# Altium integrated library TI Amplifiers and Linear Special Function Amplifier.IntLib: 708 symbols (part 20 of 47)
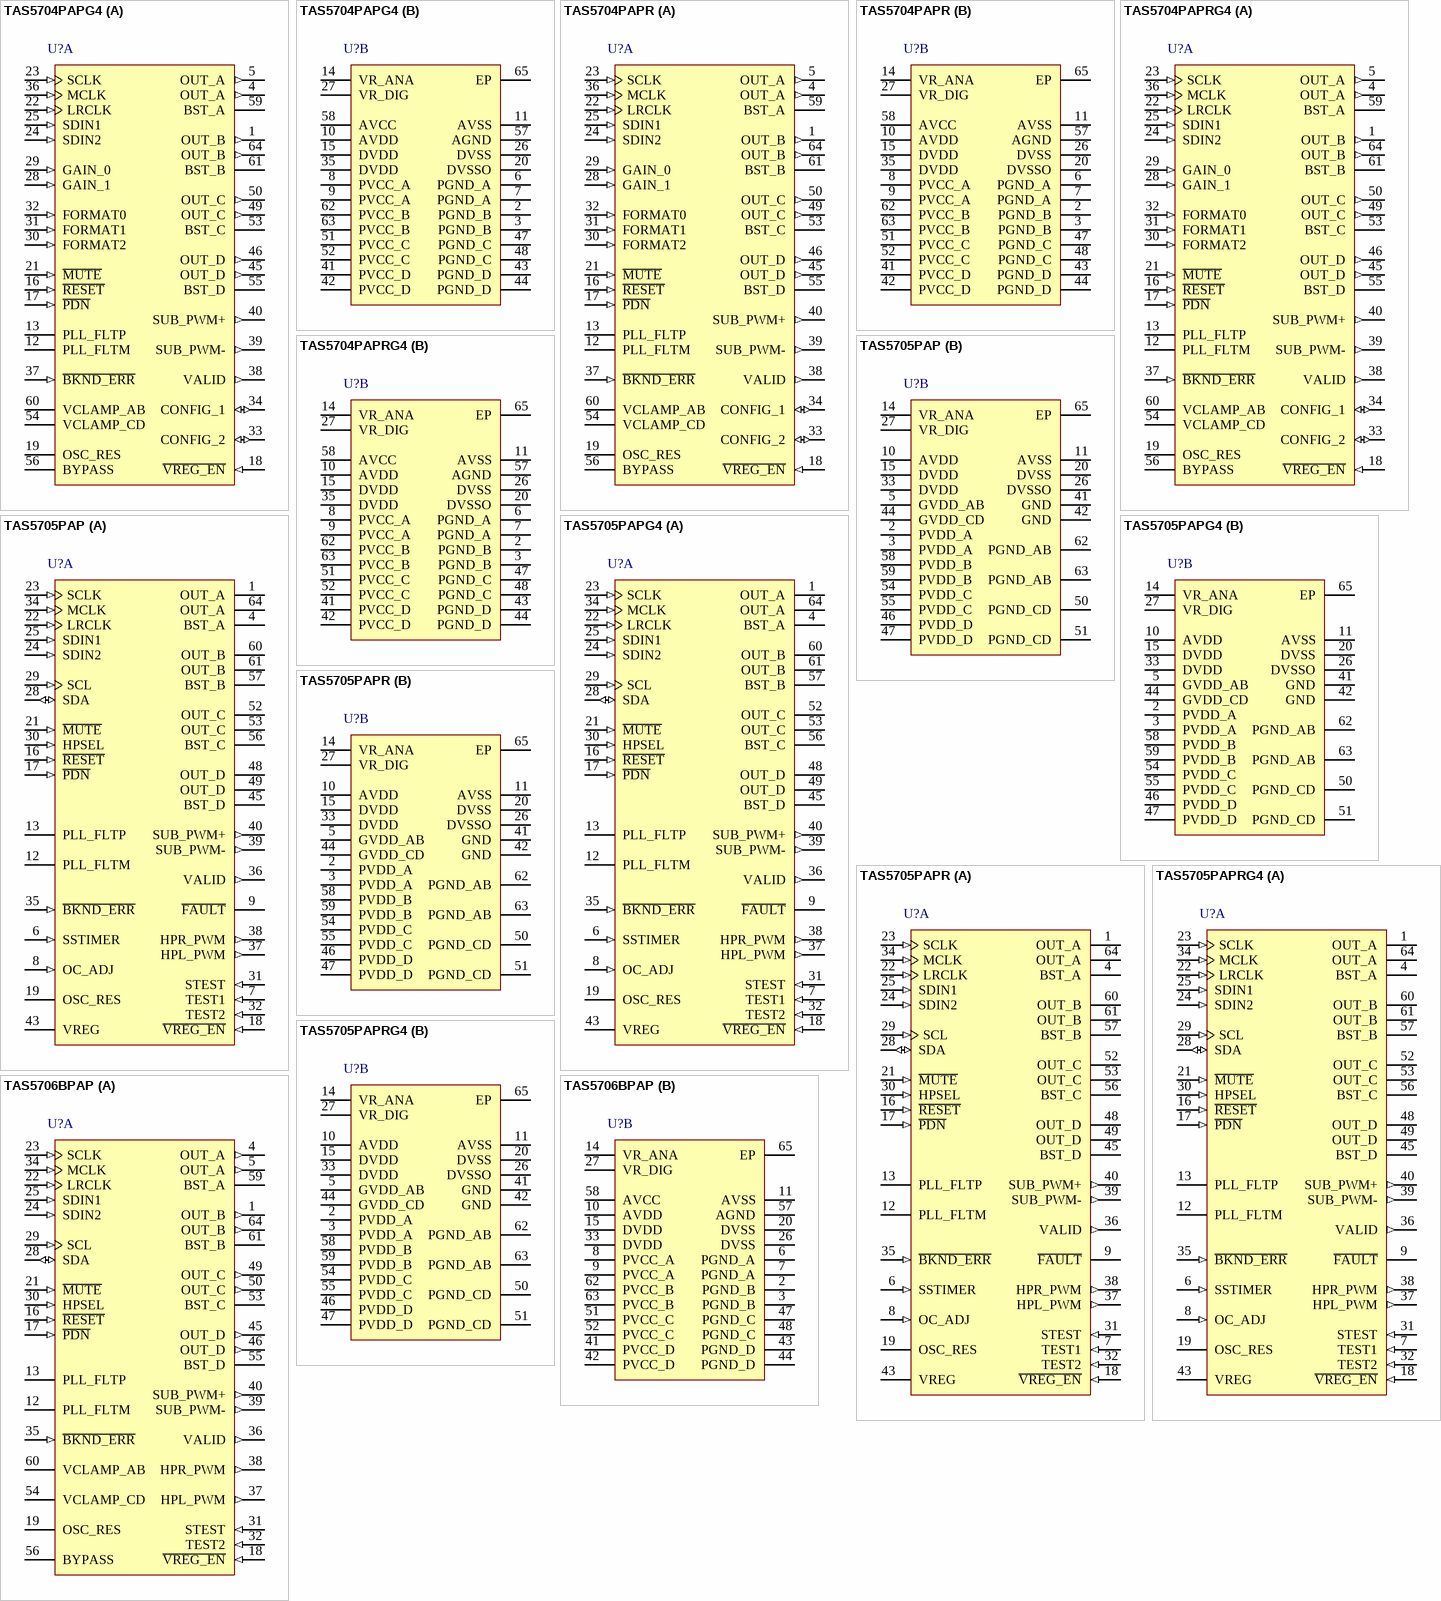
[diagram p58: symbols TAS5704PAPG4 to TAS5706BPAP]

## TAS5704PAPG4
designator U?
20 W Stereo Closed-Loop I2S Audio Power Amplifier with Speaker EQ and DRC (H / W Controlled), 0 to 85 degC, 64-pin QFP (PAP64), Green (RoHS & no Sb/Br); Manufacturer: Texas Instruments; PartNumber: TAS5704PAPG4; Analog Supply Max [V]: 3.6; Analog Supply Min [V]: 3; Input Type: Digital; Max. Number of Speaker Outputs: 4; Power Stage Supply Min(V): 10; SubFamily: Mid/High-Power Amplifier; DatasheetVersion: SLOS563A; PackageVersion: 4147702/C, 08/2003; PackageReference: PAP64-4935X4935TP; PackageDescription: 64-Pin Plastic Flat Pack, Body 10 x 10 mm, Pitch 0.5 mm; Supplier 1: Digi-Key; Supplier Part Number 1: TAS5704PAPG4-ND; Supplier 2: Mouser; Supplier Part Number 2: 595-TAS5704PAPG4; Digital Supply Min [V]: 3; Eco-Plan: Green (RoHS & no Sb/Br); Mounting Technology: Surface Mount; Code_JEDEC: MS-026; ComponentLink1Description: Manufacturer URL; ComponentLink1URL: http://www.ti.com/; ComponentLink2Description: Datasheet; ComponentLink2URL: http://www.ti.com/general/docs/lit/getliterature.tsp?genericPartNumber=TAS5704&fileType=pdf; ComponentLink3Description: Package Specification; ComponentLink3URL: http://www.ti.com/litv/pdf/mpdi001b
footprint TI-PAP64-4935X4935TP_N (QFP, 64-Leads, Body 10x10mm, Pitch 0.5mm, Thermal Pad 5.3x5.3mm, IPC Medium Density)
footprint TI-PAP64-4935X4935TP_L (QFP, 64-Leads, Body 10x10mm, Pitch 0.5mm, Thermal Pad 5.3x5.3mm, IPC High Density)
footprint TI-PAP64-4935X4935TP_M (QFP, 64-Leads, Body 10x10mm, Pitch 0.5mm, Thermal Pad 5.3x5.3mm, IPC Low Density)
part A pins: 1 OUT_B (out) "Output, half-bridge B", 4 OUT_A (out) "Output, half-bridge A", 5 OUT_A (out) "Output, half-bridge A", 12 PLL_FLTM "PLL negative loop filter terminal", 13 PLL_FLTP "PLL positive loop filter terminal", 16 ~{RESET} (in) "Reset, active-low. A system reset is generated by applying a logic low to this terminal. R\E\S\E\T\ is an asynchronous control signal that sets the VALID outputs low, and places the PWM in the hard-mute state stops (See Datasheet)", 17 ~{PDN} (in) "Power down, active-low. P\D\N\ stops all clocks and outputs stop switching. When P\D\N\ is released, the device powers up all logic, starts all clocks, and performs a soft start that returns to the previous configuration. (See Datasheet)", 18 ~{VREG_EN} (in) "Voltage regulator enable. Connect directly to GND.", 19 OSC_RES "Oscillator trim resistor. Connect an 18.2-k ohm resistor to DVSSO.", 21 ~{MUTE} (in) "Performs a soft mute of outputs, active-low. A logic low on this terminal sets the outputs equal to 50% duty cycle. A logic high on this terminal allows normal operation. The mute control provides a noiseless volume ramp to (See Datasheet)", 22 LRCLK (in) "Input serial audio data left/right clock (sampling rate clock)", 23 SCLK (in) "Serial audio data clock (shift clock). SCLK is the serial audio port input data bit clock.", 24 SDIN2 (in) "Serial audio data-2 input is one of the serial data input ports. SDIN2 supports three discrete (stereo) data formats.", 25 SDIN1 (in) "Serial audio data-1 input is one of the serial data input ports. SDIN1 supports three discrete (stereo) data formats.", 28 GAIN_1 (in) "MSB of gain select. GAIN_0 and GAIN_1 allow 4 possible gain selections.", 29 GAIN_0 (in) "LSB of gain select. GAIN_0 and GAIN_1 allow 4 possible gain selections.", 30 FORMAT2 (in) "Digital data format select.", 31 FORMAT1 (in) "Digital data format select.", 32 FORMAT0 (in) "Digital data format select.", 33 CONFIG_2 (io) "Input/output configuration.", 34 CONFIG_1 (io) "Input/output configuration.", 36 MCLK (in) "Master clock input. The input frequency of this clock can range from 4.9 MHz to 49.2 MHz.", 37 ~{BKND_ERR} (in) "Active low. A back-end error sequence is initiated by applying a logic low to this pin. Connect to an external power stage. If no external power stage is used, connect directly to DVDD.", 38 VALID (out) "Output indicating validity of all PWM channels, active high. Connect this pin to an external power stage or leave floating.", 39 SUB_PWM- (out) "Subwoofer negative PWM output", 40 SUB_PWM+ (out) "Subwoofer positive PWM output", 45 OUT_D (out) "Output, half-bridge D", 46 OUT_D (out) "Output, half-bridge D", 49 OUT_C (out) "Output, half-bridge C", 50 OUT_C (out) "Output, half-bridge C", 53 BST_C "High-side bootstrap supply for half-bridge C", 54 VCLAMP_CD "Internally generated voltage supply for channels C and D gate drive. Not to be used as a supply or connected to any component other than the decoupling capacitor", 55 BST_D "High-side bootstrap supply for half-bridge D", 56 BYPASS "Nominally equal to VCC/8. Internal reference voltage for analog cells", 59 BST_A "High-side bootstrap supply for half-bridge A", 60 VCLAMP_AB "Internally generated voltage supply for channels A and B gate drive. Not to be used as a supply or connected to any component other than the decoupling capacitor", 61 BST_B "High-side bootstrap supply for half-bridge B", 64 OUT_B (out) "Output, half-bridge B"
part B pins: 2 PGND_B (power) "Power ground for half-bridge B", 3 PGND_B (power) "Power ground for half-bridge B", 6 PGND_A (power) "Power ground for half-bridge A", 7 PGND_A (power) "Power ground for half-bridge A", 8 PVCC_A (power) "Power supply input for half-bridge output A", 9 PVCC_A (power) "Power supply input for half-bridge output A", 10 AVDD (power) "3.3-V analog power supply", 11 AVSS (power) "3.3-V analog supply ground", 14 VR_ANA (power) "Internally regulated 1.8-V analog supply voltage. This terminal must not be used to power external devices.", 15 DVDD (power) "3.3-V digital power supply", 20 DVSSO (power) "Oscillator ground", 26 DVSS (power) "Digital ground", 27 VR_DIG (power) "Internally regulated 1.8-V digital supply voltage. This terminal must not be used to power external devices.", 35 DVDD (power) "3.3-V digital power supply", 41 PVCC_D (power) "Power supply input for half-bridge output D", 42 PVCC_D (power) "Power supply input for half-bridge output D", 43 PGND_D (power) "Power ground for half-bridge D", 44 PGND_D (power) "Power ground for half-bridge D", 47 PGND_C (power) "Power ground for half-bridge C", 48 PGND_C (power) "Power ground for half-bridge C", 51 PVCC_C (power) "Power supply input for half-bridge output C", 52 PVCC_C (power) "Power supply input for half-bridge output C", 57 AGND (power) "Analog ground for power stage", 58 AVCC (power) "Analog power supply for power stage. Connect externally to same potential as PVCC.", 62 PVCC_B (power) "Power supply input for half-bridge output B", 63 PVCC_B (power) "Power supply input for half-bridge output B", 65 EP (power)

## TAS5704PAPR
designator U?
20 W Stereo Closed-Loop I2S Audio Power Amplifier with Speaker EQ and DRC (H / W Controlled), 0 to 85 degC, 64-pin QFP (PAP64), Green (RoHS & no Sb/Br); Manufacturer: Texas Instruments; PartNumber: TAS5704PAPR; Analog Supply Max [V]: 3.6; Analog Supply Min [V]: 3; Input Type: Digital; Max. Number of Speaker Outputs: 4; Power Stage Supply Min(V): 10; SubFamily: Mid/High-Power Amplifier; DatasheetVersion: SLOS563A; PackageVersion: 4147702/C, 08/2003; PackageReference: PAP64-4935X4935TP; PackageDescription: 64-Pin Plastic Flat Pack, Body 10 x 10 mm, Pitch 0.5 mm; Supplier 1: Digi-Key; Supplier Part Number 1: 296-23372-2-ND; Supplier 2: Digi-Key; Supplier Part Number 2: 296-23372-1-ND; Supplier 3: Digi-Key; Supplier Part Number 3: 296-23372-6-ND; Supplier 4: Mouser; Supplier Part Number 4: 595-TAS5704PAPR; Digital Supply Min [V]: 3; Eco-Plan: Green (RoHS & no Sb/Br); Mounting Technology: Surface Mount; Code_JEDEC: MS-026; ComponentLink1Description: Manufacturer URL; ComponentLink1URL: http://www.ti.com/; ComponentLink2Description: Datasheet; ComponentLink2URL: http://www.ti.com/general/docs/lit/getliterature.tsp?genericPartNumber=TAS5704&fileType=pdf; ComponentLink3Description: Package Specification; ComponentLink3URL: http://www.ti.com/litv/pdf/mpdi001b
footprint TI-PAP64-4935X4935TP_N (QFP, 64-Leads, Body 10x10mm, Pitch 0.5mm, Thermal Pad 5.3x5.3mm, IPC Medium Density)
footprint TI-PAP64-4935X4935TP_L (QFP, 64-Leads, Body 10x10mm, Pitch 0.5mm, Thermal Pad 5.3x5.3mm, IPC High Density)
footprint TI-PAP64-4935X4935TP_M (QFP, 64-Leads, Body 10x10mm, Pitch 0.5mm, Thermal Pad 5.3x5.3mm, IPC Low Density)
part A pins: 1 OUT_B (out) "Output, half-bridge B", 4 OUT_A (out) "Output, half-bridge A", 5 OUT_A (out) "Output, half-bridge A", 12 PLL_FLTM "PLL negative loop filter terminal", 13 PLL_FLTP "PLL positive loop filter terminal", 16 ~{RESET} (in) "Reset, active-low. A system reset is generated by applying a logic low to this terminal. R\E\S\E\T\ is an asynchronous control signal that sets the VALID outputs low, and places the PWM in the hard-mute state stops (See Datasheet)", 17 ~{PDN} (in) "Power down, active-low. P\D\N\ stops all clocks and outputs stop switching. When P\D\N\ is released, the device powers up all logic, starts all clocks, and performs a soft start that returns to the previous configuration. (See Datasheet)", 18 ~{VREG_EN} (in) "Voltage regulator enable. Connect directly to GND.", 19 OSC_RES "Oscillator trim resistor. Connect an 18.2-k ohm resistor to DVSSO.", 21 ~{MUTE} (in) "Performs a soft mute of outputs, active-low. A logic low on this terminal sets the outputs equal to 50% duty cycle. A logic high on this terminal allows normal operation. The mute control provides a noiseless volume ramp to (See Datasheet)", 22 LRCLK (in) "Input serial audio data left/right clock (sampling rate clock)", 23 SCLK (in) "Serial audio data clock (shift clock). SCLK is the serial audio port input data bit clock.", 24 SDIN2 (in) "Serial audio data-2 input is one of the serial data input ports. SDIN2 supports three discrete (stereo) data formats.", 25 SDIN1 (in) "Serial audio data-1 input is one of the serial data input ports. SDIN1 supports three discrete (stereo) data formats.", 28 GAIN_1 (in) "MSB of gain select. GAIN_0 and GAIN_1 allow 4 possible gain selections.", 29 GAIN_0 (in) "LSB of gain select. GAIN_0 and GAIN_1 allow 4 possible gain selections.", 30 FORMAT2 (in) "Digital data format select.", 31 FORMAT1 (in) "Digital data format select.", 32 FORMAT0 (in) "Digital data format select.", 33 CONFIG_2 (io) "Input/output configuration.", 34 CONFIG_1 (io) "Input/output configuration.", 36 MCLK (in) "Master clock input. The input frequency of this clock can range from 4.9 MHz to 49.2 MHz.", 37 ~{BKND_ERR} (in) "Active low. A back-end error sequence is initiated by applying a logic low to this pin. Connect to an external power stage. If no external power stage is used, connect directly to DVDD.", 38 VALID (out) "Output indicating validity of all PWM channels, active high. Connect this pin to an external power stage or leave floating.", 39 SUB_PWM- (out) "Subwoofer negative PWM output", 40 SUB_PWM+ (out) "Subwoofer positive PWM output", 45 OUT_D (out) "Output, half-bridge D", 46 OUT_D (out) "Output, half-bridge D", 49 OUT_C (out) "Output, half-bridge C", 50 OUT_C (out) "Output, half-bridge C", 53 BST_C "High-side bootstrap supply for half-bridge C", 54 VCLAMP_CD "Internally generated voltage supply for channels C and D gate drive. Not to be used as a supply or connected to any component other than the decoupling capacitor", 55 BST_D "High-side bootstrap supply for half-bridge D", 56 BYPASS "Nominally equal to VCC/8. Internal reference voltage for analog cells", 59 BST_A "High-side bootstrap supply for half-bridge A", 60 VCLAMP_AB "Internally generated voltage supply for channels A and B gate drive. Not to be used as a supply or connected to any component other than the decoupling capacitor", 61 BST_B "High-side bootstrap supply for half-bridge B", 64 OUT_B (out) "Output, half-bridge B"
part B pins: 2 PGND_B (power) "Power ground for half-bridge B", 3 PGND_B (power) "Power ground for half-bridge B", 6 PGND_A (power) "Power ground for half-bridge A", 7 PGND_A (power) "Power ground for half-bridge A", 8 PVCC_A (power) "Power supply input for half-bridge output A", 9 PVCC_A (power) "Power supply input for half-bridge output A", 10 AVDD (power) "3.3-V analog power supply", 11 AVSS (power) "3.3-V analog supply ground", 14 VR_ANA (power) "Internally regulated 1.8-V analog supply voltage. This terminal must not be used to power external devices.", 15 DVDD (power) "3.3-V digital power supply", 20 DVSSO (power) "Oscillator ground", 26 DVSS (power) "Digital ground", 27 VR_DIG (power) "Internally regulated 1.8-V digital supply voltage. This terminal must not be used to power external devices.", 35 DVDD (power) "3.3-V digital power supply", 41 PVCC_D (power) "Power supply input for half-bridge output D", 42 PVCC_D (power) "Power supply input for half-bridge output D", 43 PGND_D (power) "Power ground for half-bridge D", 44 PGND_D (power) "Power ground for half-bridge D", 47 PGND_C (power) "Power ground for half-bridge C", 48 PGND_C (power) "Power ground for half-bridge C", 51 PVCC_C (power) "Power supply input for half-bridge output C", 52 PVCC_C (power) "Power supply input for half-bridge output C", 57 AGND (power) "Analog ground for power stage", 58 AVCC (power) "Analog power supply for power stage. Connect externally to same potential as PVCC.", 62 PVCC_B (power) "Power supply input for half-bridge output B", 63 PVCC_B (power) "Power supply input for half-bridge output B", 65 EP (power)

## TAS5704PAPRG4
designator U?
20 W Stereo Closed-Loop I2S Audio Power Amplifier with Speaker EQ and DRC (H / W Controlled), 0 to 85 degC, 64-pin QFP (PAP64), Green (RoHS & no Sb/Br); Manufacturer: Texas Instruments; PartNumber: TAS5704PAPRG4; Analog Supply Max [V]: 3.6; Analog Supply Min [V]: 3; Input Type: Digital; Max. Number of Speaker Outputs: 4; Power Stage Supply Min(V): 10; SubFamily: Mid/High-Power Amplifier; DatasheetVersion: SLOS563A; PackageVersion: 4147702/C, 08/2003; PackageReference: PAP64-4935X4935TP; PackageDescription: 64-Pin Plastic Flat Pack, Body 10 x 10 mm, Pitch 0.5 mm; Supplier 1: Digi-Key; Supplier Part Number 1: TAS5704PAPRG4-ND; Supplier 2: Mouser; Supplier Part Number 2: 595-TAS5704PAPRG4; Digital Supply Min [V]: 3; Eco-Plan: Green (RoHS & no Sb/Br); Mounting Technology: Surface Mount; Code_JEDEC: MS-026; ComponentLink1Description: Manufacturer URL; ComponentLink1URL: http://www.ti.com/; ComponentLink2Description: Datasheet; ComponentLink2URL: http://www.ti.com/general/docs/lit/getliterature.tsp?genericPartNumber=TAS5704&fileType=pdf; ComponentLink3Description: Package Specification; ComponentLink3URL: http://www.ti.com/litv/pdf/mpdi001b
footprint TI-PAP64-4935X4935TP_N (QFP, 64-Leads, Body 10x10mm, Pitch 0.5mm, Thermal Pad 5.3x5.3mm, IPC Medium Density)
footprint TI-PAP64-4935X4935TP_L (QFP, 64-Leads, Body 10x10mm, Pitch 0.5mm, Thermal Pad 5.3x5.3mm, IPC High Density)
footprint TI-PAP64-4935X4935TP_M (QFP, 64-Leads, Body 10x10mm, Pitch 0.5mm, Thermal Pad 5.3x5.3mm, IPC Low Density)
part A pins: 1 OUT_B (out) "Output, half-bridge B", 4 OUT_A (out) "Output, half-bridge A", 5 OUT_A (out) "Output, half-bridge A", 12 PLL_FLTM "PLL negative loop filter terminal", 13 PLL_FLTP "PLL positive loop filter terminal", 16 ~{RESET} (in) "Reset, active-low. A system reset is generated by applying a logic low to this terminal. R\E\S\E\T\ is an asynchronous control signal that sets the VALID outputs low, and places the PWM in the hard-mute state stops (See Datasheet)", 17 ~{PDN} (in) "Power down, active-low. P\D\N\ stops all clocks and outputs stop switching. When P\D\N\ is released, the device powers up all logic, starts all clocks, and performs a soft start that returns to the previous configuration. (See Datasheet)", 18 ~{VREG_EN} (in) "Voltage regulator enable. Connect directly to GND.", 19 OSC_RES "Oscillator trim resistor. Connect an 18.2-k ohm resistor to DVSSO.", 21 ~{MUTE} (in) "Performs a soft mute of outputs, active-low. A logic low on this terminal sets the outputs equal to 50% duty cycle. A logic high on this terminal allows normal operation. The mute control provides a noiseless volume ramp to (See Datasheet)", 22 LRCLK (in) "Input serial audio data left/right clock (sampling rate clock)", 23 SCLK (in) "Serial audio data clock (shift clock). SCLK is the serial audio port input data bit clock.", 24 SDIN2 (in) "Serial audio data-2 input is one of the serial data input ports. SDIN2 supports three discrete (stereo) data formats.", 25 SDIN1 (in) "Serial audio data-1 input is one of the serial data input ports. SDIN1 supports three discrete (stereo) data formats.", 28 GAIN_1 (in) "MSB of gain select. GAIN_0 and GAIN_1 allow 4 possible gain selections.", 29 GAIN_0 (in) "LSB of gain select. GAIN_0 and GAIN_1 allow 4 possible gain selections.", 30 FORMAT2 (in) "Digital data format select.", 31 FORMAT1 (in) "Digital data format select.", 32 FORMAT0 (in) "Digital data format select.", 33 CONFIG_2 (io) "Input/output configuration.", 34 CONFIG_1 (io) "Input/output configuration.", 36 MCLK (in) "Master clock input. The input frequency of this clock can range from 4.9 MHz to 49.2 MHz.", 37 ~{BKND_ERR} (in) "Active low. A back-end error sequence is initiated by applying a logic low to this pin. Connect to an external power stage. If no external power stage is used, connect directly to DVDD.", 38 VALID (out) "Output indicating validity of all PWM channels, active high. Connect this pin to an external power stage or leave floating.", 39 SUB_PWM- (out) "Subwoofer negative PWM output", 40 SUB_PWM+ (out) "Subwoofer positive PWM output", 45 OUT_D (out) "Output, half-bridge D", 46 OUT_D (out) "Output, half-bridge D", 49 OUT_C (out) "Output, half-bridge C", 50 OUT_C (out) "Output, half-bridge C", 53 BST_C "High-side bootstrap supply for half-bridge C", 54 VCLAMP_CD "Internally generated voltage supply for channels C and D gate drive. Not to be used as a supply or connected to any component other than the decoupling capacitor", 55 BST_D "High-side bootstrap supply for half-bridge D", 56 BYPASS "Nominally equal to VCC/8. Internal reference voltage for analog cells", 59 BST_A "High-side bootstrap supply for half-bridge A", 60 VCLAMP_AB "Internally generated voltage supply for channels A and B gate drive. Not to be used as a supply or connected to any component other than the decoupling capacitor", 61 BST_B "High-side bootstrap supply for half-bridge B", 64 OUT_B (out) "Output, half-bridge B"
part B pins: 2 PGND_B (power) "Power ground for half-bridge B", 3 PGND_B (power) "Power ground for half-bridge B", 6 PGND_A (power) "Power ground for half-bridge A", 7 PGND_A (power) "Power ground for half-bridge A", 8 PVCC_A (power) "Power supply input for half-bridge output A", 9 PVCC_A (power) "Power supply input for half-bridge output A", 10 AVDD (power) "3.3-V analog power supply", 11 AVSS (power) "3.3-V analog supply ground", 14 VR_ANA (power) "Internally regulated 1.8-V analog supply voltage. This terminal must not be used to power external devices.", 15 DVDD (power) "3.3-V digital power supply", 20 DVSSO (power) "Oscillator ground", 26 DVSS (power) "Digital ground", 27 VR_DIG (power) "Internally regulated 1.8-V digital supply voltage. This terminal must not be used to power external devices.", 35 DVDD (power) "3.3-V digital power supply", 41 PVCC_D (power) "Power supply input for half-bridge output D", 42 PVCC_D (power) "Power supply input for half-bridge output D", 43 PGND_D (power) "Power ground for half-bridge D", 44 PGND_D (power) "Power ground for half-bridge D", 47 PGND_C (power) "Power ground for half-bridge C", 48 PGND_C (power) "Power ground for half-bridge C", 51 PVCC_C (power) "Power supply input for half-bridge output C", 52 PVCC_C (power) "Power supply input for half-bridge output C", 57 AGND (power) "Analog ground for power stage", 58 AVCC (power) "Analog power supply for power stage. Connect externally to same potential as PVCC.", 62 PVCC_B (power) "Power supply input for half-bridge output B", 63 PVCC_B (power) "Power supply input for half-bridge output B", 65 EP (power)

## TAS5705PAP
designator U?
20 W Stereo I2S Audio Power Amplifier with Speaker EQ and DRC, 0 to 85 degC, 64-pin QFP (PAP64), Green (RoHS & no Sb/Br); Manufacturer: Texas Instruments; PartNumber: TAS5705PAP; Analog Supply Max [V]: 3.6; Analog Supply Min [V]: 3; Input Type: Digital; Max. Number of Speaker Outputs: 2; Power Stage Supply Min(V): 8; SubFamily: Mid/High-Power Amplifier; DatasheetVersion: SLOS549A; PackageVersion: 4147702/C, 08/2003; PackageReference: PAP64-4935X4935TP; PackageDescription: 64-Pin Plastic Flat Pack, Body 10 x 10 mm, Pitch 0.5 mm; Supplier 1: Digi-Key; Supplier Part Number 1: TAS5705PAP-ND; Supplier 2: Newark; Supplier Part Number 2: 02P9901; Supplier 3: Mouser; Supplier Part Number 3: 595-TAS5705PAP; Digital Supply Min [V]: 3; Eco-Plan: Green (RoHS & no Sb/Br); Mounting Technology: Surface Mount; Code_JEDEC: MS-026; ComponentLink1Description: Manufacturer URL; ComponentLink1URL: http://www.ti.com/; ComponentLink2Description: Datasheet; ComponentLink2URL: http://www.ti.com/general/docs/lit/getliterature.tsp?genericPartNumber=TAS5705&fileType=pdf; ComponentLink3Description: Package Specification; ComponentLink3URL: http://www.ti.com/litv/pdf/mpdi001b
footprint TI-PAP64-4935X4935TP_N (QFP, 64-Leads, Body 10x10mm, Pitch 0.5mm, Thermal Pad 5.3x5.3mm, IPC Medium Density)
footprint TI-PAP64-4935X4935TP_L (QFP, 64-Leads, Body 10x10mm, Pitch 0.5mm, Thermal Pad 5.3x5.3mm, IPC High Density)
footprint TI-PAP64-4935X4935TP_M (QFP, 64-Leads, Body 10x10mm, Pitch 0.5mm, Thermal Pad 5.3x5.3mm, IPC Low Density)
part A pins: 1 OUT_A (hiz) "Output, half-bridge A", 4 BST_A "High-side bootstrap supply for half-bridge A", 6 SSTIMER (in) "Controls ramp time of OUT_X for pop-free operation. Leave this pin floating for BD mode. Requires capacitor of 2.2 nF to GND in AD mode. The capacitor determines the ramp time of PWM outputs from 0% to 50%. For 2.2 nF, (See Datasheet)", 7 TEST1 (in) "Test pin. Connect directly to GND.", 8 OC_ADJ (in) "Analog overcurrent programming. Requires 22-kohm resistor to ground.", 9 ~{FAULT} (oc) "Overtemperature, overcurrent, and undervoltage fault reporting. Active-low indicates fault. If high, normal operation.", 12 PLL_FLTM "PLL negative loop filter terminal", 13 PLL_FLTP "PLL positive loop filter terminal", 16 ~{RESET} (in) "Reset, active-low. A system reset is generated by applying a logic low to this terminal. R\E\S\E\T\ is an asynchronous control signal that restores the DAP to its default conditions, sets the VALID outputs low, and places (See Datasheet)", 17 ~{PDN} (in) "Power down, active-low. P\D\N\ powers down all logic, stops all clocks, and stops output switching whenever a logic low is applied. When P\D\N\ is released, the device powers up all logic, starts all clocks, and performs a (See Datasheet)", 18 ~{VREG_EN} (in) "Voltage regulator enable. Connect directly to GND.", 19 OSC_RES "Oscillator trim resistor. Connect an 18.2-kohm, 1% tolerance resistor to DVSSO.", 21 ~{MUTE} (in) "Performs a soft mute of outputs, active-low. A logic low on this pin sets the outputs equal to 50% duty cycle. A logic high on this pin allows normal operation. The mute control provides a noiseless volume ramp to silence. (See Datasheet)", 22 LRCLK (in) "Input serial audio data left/right clock (sampling rate clock)", 23 SCLK (in) "Serial audio data clock (shift clock). SCLK is the serial audio port input data bit clock.", 24 SDIN2 (in) "Serial audio data 2 input is one of the serial data input ports. SDIN2 supports three discrete (stereo) data formats.", 25 SDIN1 (in) "Serial audio data 1 input is one of the serial data input ports. SDIN1 supports three discrete (stereo) data formats.", 28 SDA (io) "I2C serial control data interface input/output", 29 SCL (in) "I2C serial control clock input", 30 HPSEL (in) "Headphone select, active-high. When a logic high is applied, device enters headphone mode and speakers are MUTED (HARD MUTE). When a logic LOW is applied, device is in speaker mode and headphone outputs become line outputs (See Datasheet)", 31 STEST (in) "Test pin. Connect directly to GND.", 32 TEST2 (in) "Test pin. Connect directly to DVDD.", 34 MCLK (in) "MCLK is the clock master input. The input frequency of this clock can range from 4.9 MHz to 49.2 MHz.", 35 ~{BKND_ERR} (in) "Active-low. A back-end error sequence is generated by applying logic LOW to this terminal. This pin is connected to an external power stage. If no external power stage is used, connect this pin directly to DVDD.", 36 VALID (out) "Output indicating validity of ALL PWM channels, active-high. This pin is connected to an external power stage. If no external power stage is used, leave this pin floating.", 37 HPL_PWM (out) "Headphone left-channel PWM output.", 38 HPR_PWM (out) "Headphone right-channel PWM output.", 39 SUB_PWM- (out) "Subwoofer negative PWM output", 40 SUB_PWM+ (out) "Subwoofer positive PWM output", 43 VREG "3.3 Regulator output. Not to be used as s supply or connected to any other components other than decoupling caps. Add decoupling capacitors with pins 42 and 41.", 45 BST_D "High-side bootstrap supply for half-bridge D", 48 OUT_D (hiz) "Output, half-bridge D", 49 OUT_D (hiz) "Output, half-bridge D", 52 OUT_C (hiz) "Output, half-bridge C", 53 OUT_C (hiz) "Output, half-bridge C", 56 BST_C "High-side bootstrap supply for half-bridge C", 57 BST_B "High-side bootstrap supply for half-bridge B", 60 OUT_B (hiz) "Output, half-bridge B", 61 OUT_B (hiz) "Output, half-bridge B", 64 OUT_A (hiz) "Output, half-bridge A"
part B pins: 2 PVDD_A (power) "Power supply input for half-bridge output A (8 V-23 V)", 3 PVDD_A (power) "Power supply input for half-bridge output A (8 V-23 V)", 5 GVDD_AB (power) "Gate drive internal regulated output for AB channels", 10 AVDD (power) "3.3-V analog power supply. Needs close decoupling capacitor.", 11 AVSS (power) "Analog 3.3-V supply ground", 14 VR_ANA (power) "Internally regulated 1.8-V analog supply voltage. This terminal must not be used to power external devices.", 15 DVDD (power) "3.3-V digital power supply", 20 DVSS (power) "Digital ground", 26 DVSSO (power) "Oscillator ground", 27 VR_DIG (power) "Internally regulated 1.8V digital supply voltage.This terminal must not be used to power external devices.", 33 DVDD (power) "3.3-V digital power supply", 41 GND (power) "Analog ground for power stage", 42 GND (power) "Analog ground for power stage", 44 GVDD_CD (power) "Gate drive internal regulated output for CD channels", 46 PVDD_D (power) "Power supply input for half-bridge output D (8 V-23 V)", 47 PVDD_D (power) "Power supply input for half-bridge output D (8 V-23 V)", 50 PGND_CD (power) "Power ground for half-bridges C and D", 51 PGND_CD (power) "Power ground for half-bridges C and D", 54 PVDD_C (power) "Power supply input for half-bridge output C (8 V-23 V)", 55 PVDD_C (power) "Power supply input for half-bridge output C (8 V-23 V)", 58 PVDD_B (power) "Power supply input for half-bridge output B (8 V-23 V)", 59 PVDD_B (power) "Power supply input for half-bridge output B (8 V-23 V)", 62 PGND_AB (power) "Power ground for half-bridges A and B", 63 PGND_AB (power) "Power ground for half-bridges A and B", 65 EP

## TAS5705PAPG4
designator U?
20 W Stereo I2S Audio Power Amplifier with Speaker EQ and DRC, 0 to 85 degC, 64-pin QFP (PAP64), Green (RoHS & no Sb/Br); Manufacturer: Texas Instruments; PartNumber: TAS5705PAPG4; Analog Supply Max [V]: 3.6; Analog Supply Min [V]: 3; Input Type: Digital; Max. Number of Speaker Outputs: 2; Power Stage Supply Min(V): 8; SubFamily: Mid/High-Power Amplifier; DatasheetVersion: SLOS549A; PackageVersion: 4147702/C, 08/2003; PackageReference: PAP64-4935X4935TP; PackageDescription: 64-Pin Plastic Flat Pack, Body 10 x 10 mm, Pitch 0.5 mm; Supplier 1: Digi-Key; Supplier Part Number 1: TAS5705PAPG4-ND; Supplier 2: Mouser; Supplier Part Number 2: 595-TAS5705PAPG4; Digital Supply Min [V]: 3; Eco-Plan: Green (RoHS & no Sb/Br); Mounting Technology: Surface Mount; Code_JEDEC: MS-026; ComponentLink1Description: Manufacturer URL; ComponentLink1URL: http://www.ti.com/; ComponentLink2Description: Datasheet; ComponentLink2URL: http://www.ti.com/general/docs/lit/getliterature.tsp?genericPartNumber=TAS5705&fileType=pdf; ComponentLink3Description: Package Specification; ComponentLink3URL: http://www.ti.com/litv/pdf/mpdi001b
footprint TI-PAP64-4935X4935TP_N (QFP, 64-Leads, Body 10x10mm, Pitch 0.5mm, Thermal Pad 5.3x5.3mm, IPC Medium Density)
footprint TI-PAP64-4935X4935TP_L (QFP, 64-Leads, Body 10x10mm, Pitch 0.5mm, Thermal Pad 5.3x5.3mm, IPC High Density)
footprint TI-PAP64-4935X4935TP_M (QFP, 64-Leads, Body 10x10mm, Pitch 0.5mm, Thermal Pad 5.3x5.3mm, IPC Low Density)
part A pins: 1 OUT_A (hiz) "Output, half-bridge A", 4 BST_A "High-side bootstrap supply for half-bridge A", 6 SSTIMER (in) "Controls ramp time of OUT_X for pop-free operation. Leave this pin floating for BD mode. Requires capacitor of 2.2 nF to GND in AD mode. The capacitor determines the ramp time of PWM outputs from 0% to 50%. For 2.2 nF, (See Datasheet)", 7 TEST1 (in) "Test pin. Connect directly to GND.", 8 OC_ADJ (in) "Analog overcurrent programming. Requires 22-kohm resistor to ground.", 9 ~{FAULT} (oc) "Overtemperature, overcurrent, and undervoltage fault reporting. Active-low indicates fault. If high, normal operation.", 12 PLL_FLTM "PLL negative loop filter terminal", 13 PLL_FLTP "PLL positive loop filter terminal", 16 ~{RESET} (in) "Reset, active-low. A system reset is generated by applying a logic low to this terminal. R\E\S\E\T\ is an asynchronous control signal that restores the DAP to its default conditions, sets the VALID outputs low, and places (See Datasheet)", 17 ~{PDN} (in) "Power down, active-low. P\D\N\ powers down all logic, stops all clocks, and stops output switching whenever a logic low is applied. When P\D\N\ is released, the device powers up all logic, starts all clocks, and performs a (See Datasheet)", 18 ~{VREG_EN} (in) "Voltage regulator enable. Connect directly to GND.", 19 OSC_RES "Oscillator trim resistor. Connect an 18.2-kohm, 1% tolerance resistor to DVSSO.", 21 ~{MUTE} (in) "Performs a soft mute of outputs, active-low. A logic low on this pin sets the outputs equal to 50% duty cycle. A logic high on this pin allows normal operation. The mute control provides a noiseless volume ramp to silence. (See Datasheet)", 22 LRCLK (in) "Input serial audio data left/right clock (sampling rate clock)", 23 SCLK (in) "Serial audio data clock (shift clock). SCLK is the serial audio port input data bit clock.", 24 SDIN2 (in) "Serial audio data 2 input is one of the serial data input ports. SDIN2 supports three discrete (stereo) data formats.", 25 SDIN1 (in) "Serial audio data 1 input is one of the serial data input ports. SDIN1 supports three discrete (stereo) data formats.", 28 SDA (io) "I2C serial control data interface input/output", 29 SCL (in) "I2C serial control clock input", 30 HPSEL (in) "Headphone select, active-high. When a logic high is applied, device enters headphone mode and speakers are MUTED (HARD MUTE). When a logic LOW is applied, device is in speaker mode and headphone outputs become line outputs (See Datasheet)", 31 STEST (in) "Test pin. Connect directly to GND.", 32 TEST2 (in) "Test pin. Connect directly to DVDD.", 34 MCLK (in) "MCLK is the clock master input. The input frequency of this clock can range from 4.9 MHz to 49.2 MHz.", 35 ~{BKND_ERR} (in) "Active-low. A back-end error sequence is generated by applying logic LOW to this terminal. This pin is connected to an external power stage. If no external power stage is used, connect this pin directly to DVDD.", 36 VALID (out) "Output indicating validity of ALL PWM channels, active-high. This pin is connected to an external power stage. If no external power stage is used, leave this pin floating.", 37 HPL_PWM (out) "Headphone left-channel PWM output.", 38 HPR_PWM (out) "Headphone right-channel PWM output.", 39 SUB_PWM- (out) "Subwoofer negative PWM output", 40 SUB_PWM+ (out) "Subwoofer positive PWM output", 43 VREG "3.3 Regulator output. Not to be used as s supply or connected to any other components other than decoupling caps. Add decoupling capacitors with pins 42 and 41.", 45 BST_D "High-side bootstrap supply for half-bridge D", 48 OUT_D (hiz) "Output, half-bridge D", 49 OUT_D (hiz) "Output, half-bridge D", 52 OUT_C (hiz) "Output, half-bridge C", 53 OUT_C (hiz) "Output, half-bridge C", 56 BST_C "High-side bootstrap supply for half-bridge C", 57 BST_B "High-side bootstrap supply for half-bridge B", 60 OUT_B (hiz) "Output, half-bridge B", 61 OUT_B (hiz) "Output, half-bridge B", 64 OUT_A (hiz) "Output, half-bridge A"
part B pins: 2 PVDD_A (power) "Power supply input for half-bridge output A (8 V-23 V)", 3 PVDD_A (power) "Power supply input for half-bridge output A (8 V-23 V)", 5 GVDD_AB (power) "Gate drive internal regulated output for AB channels", 10 AVDD (power) "3.3-V analog power supply. Needs close decoupling capacitor.", 11 AVSS (power) "Analog 3.3-V supply ground", 14 VR_ANA (power) "Internally regulated 1.8-V analog supply voltage. This terminal must not be used to power external devices.", 15 DVDD (power) "3.3-V digital power supply", 20 DVSS (power) "Digital ground", 26 DVSSO (power) "Oscillator ground", 27 VR_DIG (power) "Internally regulated 1.8V digital supply voltage.This terminal must not be used to power external devices.", 33 DVDD (power) "3.3-V digital power supply", 41 GND (power) "Analog ground for power stage", 42 GND (power) "Analog ground for power stage", 44 GVDD_CD (power) "Gate drive internal regulated output for CD channels", 46 PVDD_D (power) "Power supply input for half-bridge output D (8 V-23 V)", 47 PVDD_D (power) "Power supply input for half-bridge output D (8 V-23 V)", 50 PGND_CD (power) "Power ground for half-bridges C and D", 51 PGND_CD (power) "Power ground for half-bridges C and D", 54 PVDD_C (power) "Power supply input for half-bridge output C (8 V-23 V)", 55 PVDD_C (power) "Power supply input for half-bridge output C (8 V-23 V)", 58 PVDD_B (power) "Power supply input for half-bridge output B (8 V-23 V)", 59 PVDD_B (power) "Power supply input for half-bridge output B (8 V-23 V)", 62 PGND_AB (power) "Power ground for half-bridges A and B", 63 PGND_AB (power) "Power ground for half-bridges A and B", 65 EP

## TAS5705PAPR
designator U?
20 W Stereo I2S Audio Power Amplifier with Speaker EQ and DRC, 0 to 85 degC, 64-pin QFP (PAP64), Green (RoHS & no Sb/Br); Manufacturer: Texas Instruments; PartNumber: TAS5705PAPR; Analog Supply Max [V]: 3.6; Analog Supply Min [V]: 3; Input Type: Digital; Max. Number of Speaker Outputs: 2; Power Stage Supply Min(V): 8; SubFamily: Mid/High-Power Amplifier; DatasheetVersion: SLOS549A; PackageVersion: 4147702/C, 08/2003; PackageReference: PAP64-4935X4935TP; PackageDescription: 64-Pin Plastic Flat Pack, Body 10 x 10 mm, Pitch 0.5 mm; Supplier 1: Digi-Key; Supplier Part Number 1: 296-23534-2-ND; Supplier 2: Digi-Key; Supplier Part Number 2: 296-23534-1-ND; Supplier 3: Digi-Key; Supplier Part Number 3: 296-23534-6-ND; Supplier 4: Newark; Supplier Part Number 4: 01P0909; Supplier 5: Mouser; Supplier Part Number 5: 595-TAS5705PAPR; Digital Supply Min [V]: 3; Eco-Plan: Green (RoHS & no Sb/Br); Mounting Technology: Surface Mount; Code_JEDEC: MS-026; ComponentLink1Description: Manufacturer URL; ComponentLink1URL: http://www.ti.com/; ComponentLink2Description: Datasheet; ComponentLink2URL: http://www.ti.com/general/docs/lit/getliterature.tsp?genericPartNumber=TAS5705&fileType=pdf; ComponentLink3Description: Package Specification; ComponentLink3URL: http://www.ti.com/litv/pdf/mpdi001b
footprint TI-PAP64-4935X4935TP_N (QFP, 64-Leads, Body 10x10mm, Pitch 0.5mm, Thermal Pad 5.3x5.3mm, IPC Medium Density)
footprint TI-PAP64-4935X4935TP_L (QFP, 64-Leads, Body 10x10mm, Pitch 0.5mm, Thermal Pad 5.3x5.3mm, IPC High Density)
footprint TI-PAP64-4935X4935TP_M (QFP, 64-Leads, Body 10x10mm, Pitch 0.5mm, Thermal Pad 5.3x5.3mm, IPC Low Density)
part A pins: 1 OUT_A (hiz) "Output, half-bridge A", 4 BST_A "High-side bootstrap supply for half-bridge A", 6 SSTIMER (in) "Controls ramp time of OUT_X for pop-free operation. Leave this pin floating for BD mode. Requires capacitor of 2.2 nF to GND in AD mode. The capacitor determines the ramp time of PWM outputs from 0% to 50%. For 2.2 nF, (See Datasheet)", 7 TEST1 (in) "Test pin. Connect directly to GND.", 8 OC_ADJ (in) "Analog overcurrent programming. Requires 22-kohm resistor to ground.", 9 ~{FAULT} (oc) "Overtemperature, overcurrent, and undervoltage fault reporting. Active-low indicates fault. If high, normal operation.", 12 PLL_FLTM "PLL negative loop filter terminal", 13 PLL_FLTP "PLL positive loop filter terminal", 16 ~{RESET} (in) "Reset, active-low. A system reset is generated by applying a logic low to this terminal. R\E\S\E\T\ is an asynchronous control signal that restores the DAP to its default conditions, sets the VALID outputs low, and places (See Datasheet)", 17 ~{PDN} (in) "Power down, active-low. P\D\N\ powers down all logic, stops all clocks, and stops output switching whenever a logic low is applied. When P\D\N\ is released, the device powers up all logic, starts all clocks, and performs a (See Datasheet)", 18 ~{VREG_EN} (in) "Voltage regulator enable. Connect directly to GND.", 19 OSC_RES "Oscillator trim resistor. Connect an 18.2-kohm, 1% tolerance resistor to DVSSO.", 21 ~{MUTE} (in) "Performs a soft mute of outputs, active-low. A logic low on this pin sets the outputs equal to 50% duty cycle. A logic high on this pin allows normal operation. The mute control provides a noiseless volume ramp to silence. (See Datasheet)", 22 LRCLK (in) "Input serial audio data left/right clock (sampling rate clock)", 23 SCLK (in) "Serial audio data clock (shift clock). SCLK is the serial audio port input data bit clock.", 24 SDIN2 (in) "Serial audio data 2 input is one of the serial data input ports. SDIN2 supports three discrete (stereo) data formats.", 25 SDIN1 (in) "Serial audio data 1 input is one of the serial data input ports. SDIN1 supports three discrete (stereo) data formats.", 28 SDA (io) "I2C serial control data interface input/output", 29 SCL (in) "I2C serial control clock input", 30 HPSEL (in) "Headphone select, active-high. When a logic high is applied, device enters headphone mode and speakers are MUTED (HARD MUTE). When a logic LOW is applied, device is in speaker mode and headphone outputs become line outputs (See Datasheet)", 31 STEST (in) "Test pin. Connect directly to GND.", 32 TEST2 (in) "Test pin. Connect directly to DVDD.", 34 MCLK (in) "MCLK is the clock master input. The input frequency of this clock can range from 4.9 MHz to 49.2 MHz.", 35 ~{BKND_ERR} (in) "Active-low. A back-end error sequence is generated by applying logic LOW to this terminal. This pin is connected to an external power stage. If no external power stage is used, connect this pin directly to DVDD.", 36 VALID (out) "Output indicating validity of ALL PWM channels, active-high. This pin is connected to an external power stage. If no external power stage is used, leave this pin floating.", 37 HPL_PWM (out) "Headphone left-channel PWM output.", 38 HPR_PWM (out) "Headphone right-channel PWM output.", 39 SUB_PWM- (out) "Subwoofer negative PWM output", 40 SUB_PWM+ (out) "Subwoofer positive PWM output", 43 VREG "3.3 Regulator output. Not to be used as s supply or connected to any other components other than decoupling caps. Add decoupling capacitors with pins 42 and 41.", 45 BST_D "High-side bootstrap supply for half-bridge D", 48 OUT_D (hiz) "Output, half-bridge D", 49 OUT_D (hiz) "Output, half-bridge D", 52 OUT_C (hiz) "Output, half-bridge C", 53 OUT_C (hiz) "Output, half-bridge C", 56 BST_C "High-side bootstrap supply for half-bridge C", 57 BST_B "High-side bootstrap supply for half-bridge B", 60 OUT_B (hiz) "Output, half-bridge B", 61 OUT_B (hiz) "Output, half-bridge B", 64 OUT_A (hiz) "Output, half-bridge A"
part B pins: 2 PVDD_A (power) "Power supply input for half-bridge output A (8 V-23 V)", 3 PVDD_A (power) "Power supply input for half-bridge output A (8 V-23 V)", 5 GVDD_AB (power) "Gate drive internal regulated output for AB channels", 10 AVDD (power) "3.3-V analog power supply. Needs close decoupling capacitor.", 11 AVSS (power) "Analog 3.3-V supply ground", 14 VR_ANA (power) "Internally regulated 1.8-V analog supply voltage. This terminal must not be used to power external devices.", 15 DVDD (power) "3.3-V digital power supply", 20 DVSS (power) "Digital ground", 26 DVSSO (power) "Oscillator ground", 27 VR_DIG (power) "Internally regulated 1.8V digital supply voltage.This terminal must not be used to power external devices.", 33 DVDD (power) "3.3-V digital power supply", 41 GND (power) "Analog ground for power stage", 42 GND (power) "Analog ground for power stage", 44 GVDD_CD (power) "Gate drive internal regulated output for CD channels", 46 PVDD_D (power) "Power supply input for half-bridge output D (8 V-23 V)", 47 PVDD_D (power) "Power supply input for half-bridge output D (8 V-23 V)", 50 PGND_CD (power) "Power ground for half-bridges C and D", 51 PGND_CD (power) "Power ground for half-bridges C and D", 54 PVDD_C (power) "Power supply input for half-bridge output C (8 V-23 V)", 55 PVDD_C (power) "Power supply input for half-bridge output C (8 V-23 V)", 58 PVDD_B (power) "Power supply input for half-bridge output B (8 V-23 V)", 59 PVDD_B (power) "Power supply input for half-bridge output B (8 V-23 V)", 62 PGND_AB (power) "Power ground for half-bridges A and B", 63 PGND_AB (power) "Power ground for half-bridges A and B", 65 EP

## TAS5705PAPRG4
designator U?
20 W Stereo I2S Audio Power Amplifier with Speaker EQ and DRC, 0 to 85 degC, 64-pin QFP (PAP64), Green (RoHS & no Sb/Br); Manufacturer: Texas Instruments; PartNumber: TAS5705PAPRG4; Analog Supply Max [V]: 3.6; Analog Supply Min [V]: 3; Input Type: Digital; Max. Number of Speaker Outputs: 2; Power Stage Supply Min(V): 8; SubFamily: Mid/High-Power Amplifier; DatasheetVersion: SLOS549A; PackageVersion: 4147702/C, 08/2003; PackageReference: PAP64-4935X4935TP; PackageDescription: 64-Pin Plastic Flat Pack, Body 10 x 10 mm, Pitch 0.5 mm; Supplier 1: Digi-Key; Supplier Part Number 1: TAS5705PAPRG4-ND; Supplier 2: Mouser; Supplier Part Number 2: 595-TAS5705PAPRG4; Digital Supply Min [V]: 3; Eco-Plan: Green (RoHS & no Sb/Br); Mounting Technology: Surface Mount; Code_JEDEC: MS-026; ComponentLink1Description: Manufacturer URL; ComponentLink1URL: http://www.ti.com/; ComponentLink2Description: Datasheet; ComponentLink2URL: http://www.ti.com/general/docs/lit/getliterature.tsp?genericPartNumber=TAS5705&fileType=pdf; ComponentLink3Description: Package Specification; ComponentLink3URL: http://www.ti.com/litv/pdf/mpdi001b
footprint TI-PAP64-4935X4935TP_N (QFP, 64-Leads, Body 10x10mm, Pitch 0.5mm, Thermal Pad 5.3x5.3mm, IPC Medium Density)
footprint TI-PAP64-4935X4935TP_L (QFP, 64-Leads, Body 10x10mm, Pitch 0.5mm, Thermal Pad 5.3x5.3mm, IPC High Density)
footprint TI-PAP64-4935X4935TP_M (QFP, 64-Leads, Body 10x10mm, Pitch 0.5mm, Thermal Pad 5.3x5.3mm, IPC Low Density)
part A pins: 1 OUT_A (hiz) "Output, half-bridge A", 4 BST_A "High-side bootstrap supply for half-bridge A", 6 SSTIMER (in) "Controls ramp time of OUT_X for pop-free operation. Leave this pin floating for BD mode. Requires capacitor of 2.2 nF to GND in AD mode. The capacitor determines the ramp time of PWM outputs from 0% to 50%. For 2.2 nF, (See Datasheet)", 7 TEST1 (in) "Test pin. Connect directly to GND.", 8 OC_ADJ (in) "Analog overcurrent programming. Requires 22-kohm resistor to ground.", 9 ~{FAULT} (oc) "Overtemperature, overcurrent, and undervoltage fault reporting. Active-low indicates fault. If high, normal operation.", 12 PLL_FLTM "PLL negative loop filter terminal", 13 PLL_FLTP "PLL positive loop filter terminal", 16 ~{RESET} (in) "Reset, active-low. A system reset is generated by applying a logic low to this terminal. R\E\S\E\T\ is an asynchronous control signal that restores the DAP to its default conditions, sets the VALID outputs low, and places (See Datasheet)", 17 ~{PDN} (in) "Power down, active-low. P\D\N\ powers down all logic, stops all clocks, and stops output switching whenever a logic low is applied. When P\D\N\ is released, the device powers up all logic, starts all clocks, and performs a (See Datasheet)", 18 ~{VREG_EN} (in) "Voltage regulator enable. Connect directly to GND.", 19 OSC_RES "Oscillator trim resistor. Connect an 18.2-kohm, 1% tolerance resistor to DVSSO.", 21 ~{MUTE} (in) "Performs a soft mute of outputs, active-low. A logic low on this pin sets the outputs equal to 50% duty cycle. A logic high on this pin allows normal operation. The mute control provides a noiseless volume ramp to silence. (See Datasheet)", 22 LRCLK (in) "Input serial audio data left/right clock (sampling rate clock)", 23 SCLK (in) "Serial audio data clock (shift clock). SCLK is the serial audio port input data bit clock.", 24 SDIN2 (in) "Serial audio data 2 input is one of the serial data input ports. SDIN2 supports three discrete (stereo) data formats.", 25 SDIN1 (in) "Serial audio data 1 input is one of the serial data input ports. SDIN1 supports three discrete (stereo) data formats.", 28 SDA (io) "I2C serial control data interface input/output", 29 SCL (in) "I2C serial control clock input", 30 HPSEL (in) "Headphone select, active-high. When a logic high is applied, device enters headphone mode and speakers are MUTED (HARD MUTE). When a logic LOW is applied, device is in speaker mode and headphone outputs become line outputs (See Datasheet)", 31 STEST (in) "Test pin. Connect directly to GND.", 32 TEST2 (in) "Test pin. Connect directly to DVDD.", 34 MCLK (in) "MCLK is the clock master input. The input frequency of this clock can range from 4.9 MHz to 49.2 MHz.", 35 ~{BKND_ERR} (in) "Active-low. A back-end error sequence is generated by applying logic LOW to this terminal. This pin is connected to an external power stage. If no external power stage is used, connect this pin directly to DVDD.", 36 VALID (out) "Output indicating validity of ALL PWM channels, active-high. This pin is connected to an external power stage. If no external power stage is used, leave this pin floating.", 37 HPL_PWM (out) "Headphone left-channel PWM output.", 38 HPR_PWM (out) "Headphone right-channel PWM output.", 39 SUB_PWM- (out) "Subwoofer negative PWM output", 40 SUB_PWM+ (out) "Subwoofer positive PWM output", 43 VREG "3.3 Regulator output. Not to be used as s supply or connected to any other components other than decoupling caps. Add decoupling capacitors with pins 42 and 41.", 45 BST_D "High-side bootstrap supply for half-bridge D", 48 OUT_D (hiz) "Output, half-bridge D", 49 OUT_D (hiz) "Output, half-bridge D", 52 OUT_C (hiz) "Output, half-bridge C", 53 OUT_C (hiz) "Output, half-bridge C", 56 BST_C "High-side bootstrap supply for half-bridge C", 57 BST_B "High-side bootstrap supply for half-bridge B", 60 OUT_B (hiz) "Output, half-bridge B", 61 OUT_B (hiz) "Output, half-bridge B", 64 OUT_A (hiz) "Output, half-bridge A"
part B pins: 2 PVDD_A (power) "Power supply input for half-bridge output A (8 V-23 V)", 3 PVDD_A (power) "Power supply input for half-bridge output A (8 V-23 V)", 5 GVDD_AB (power) "Gate drive internal regulated output for AB channels", 10 AVDD (power) "3.3-V analog power supply. Needs close decoupling capacitor.", 11 AVSS (power) "Analog 3.3-V supply ground", 14 VR_ANA (power) "Internally regulated 1.8-V analog supply voltage. This terminal must not be used to power external devices.", 15 DVDD (power) "3.3-V digital power supply", 20 DVSS (power) "Digital ground", 26 DVSSO (power) "Oscillator ground", 27 VR_DIG (power) "Internally regulated 1.8V digital supply voltage.This terminal must not be used to power external devices.", 33 DVDD (power) "3.3-V digital power supply", 41 GND (power) "Analog ground for power stage", 42 GND (power) "Analog ground for power stage", 44 GVDD_CD (power) "Gate drive internal regulated output for CD channels", 46 PVDD_D (power) "Power supply input for half-bridge output D (8 V-23 V)", 47 PVDD_D (power) "Power supply input for half-bridge output D (8 V-23 V)", 50 PGND_CD (power) "Power ground for half-bridges C and D", 51 PGND_CD (power) "Power ground for half-bridges C and D", 54 PVDD_C (power) "Power supply input for half-bridge output C (8 V-23 V)", 55 PVDD_C (power) "Power supply input for half-bridge output C (8 V-23 V)", 58 PVDD_B (power) "Power supply input for half-bridge output B (8 V-23 V)", 59 PVDD_B (power) "Power supply input for half-bridge output B (8 V-23 V)", 62 PGND_AB (power) "Power ground for half-bridges A and B", 63 PGND_AB (power) "Power ground for half-bridges A and B", 65 EP